# Altium integrated library Linear Technology Operational Amplifiers (LT1000).IntLib: 2280 symbols (part 40 of 79)
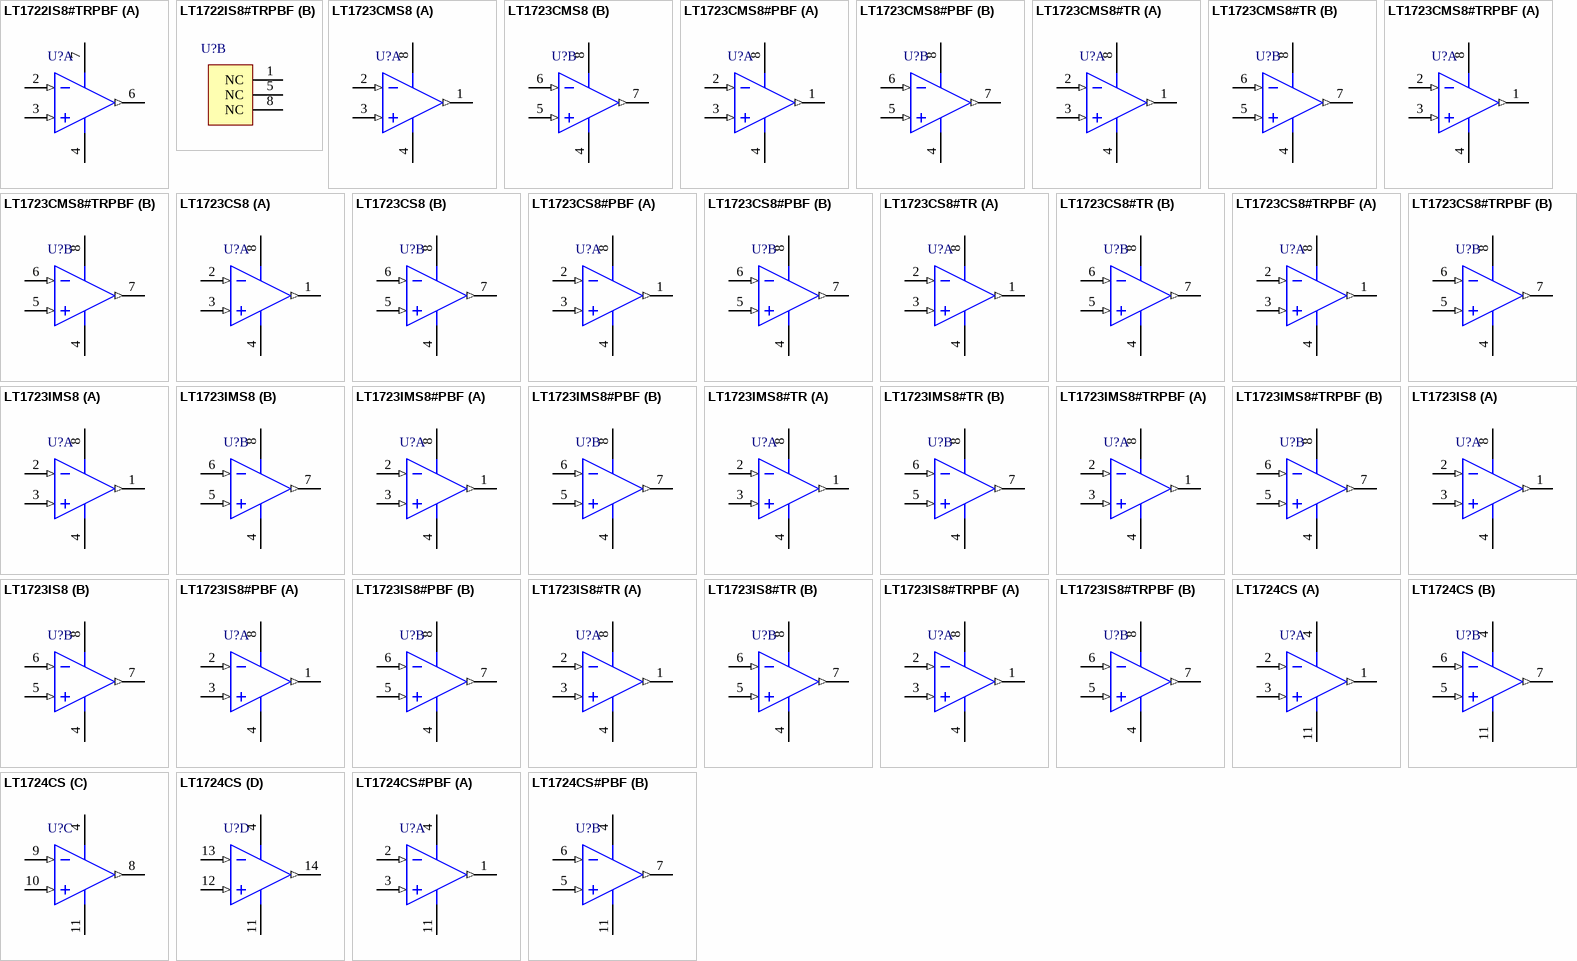
[diagram p144: symbols LT1722IS8#TRPBF to LT1724CS#PBF]

## LT1723IMS8#TR
designator U?
Dual Channel, Low Noise at Video Speed, Precision Operational Amplifier, 200 MHz Typical GBW, 70 V/us Typical SR, 4.6 to 12.6 V, 8-Pin SOP (MS8-8), Industrial, Reel; Linear Technology Part Number: LT1723; Manufacturer: Linear Technology; PartNumber: LT1723IMS8#TR; Channels (#): 2; GBW (MHz) Typical: 200; Is (mA) Typical: 3.7; SR (V/us) Typical: 70; Vos (mV) Guaranteed: 0.4; Vos (mV) Typical: 0.1; Vs Max (V): 12.6; Vs Min (V): 4.6; DatasheetVersion: Rev. B; PackageVersion: Rev G; PackageReference: LT-MS8-8; PackageDescription: 8-Lead Plastic Small Outline, Body 3.9 x 4.9 mm, Pitch 1.27 mm; Supplier 1: Digi-Key; Supplier Part Number 1: LT1723IMS8#TR-ND; Packing: Reel; Type: VFB; Mounting Technology: Surface Mount; ComponentLink1Description: Manufacturer URL; ComponentLink1URL: http://www.linear.com/; ComponentLink2Description: Datasheet; ComponentLink2URL: http://cds.linear.com/docs/en/datasheet/172234fb.pdf; ComponentLink3Description: Package Specification; ComponentLink3URL: http://cds.linear.com/docs/en/packaging/05081610_G_SO8.pdf
footprint LT-MS8-8_N (SOP, 8-Leads, Body 3x3mm, Pitch 0.65mm, IPC Medium Density)
footprint LT-MS8-8_L (SOP, 8-Leads, Body 3x3mm, Pitch 0.65mm, IPC High Density)
footprint LT-MS8-8_M (SOP, 8-Leads, Body 3x3mm, Pitch 0.65mm, IPC Low Density)
pins on every part: 4 V- (power), 8 V+ (power)
part A pins: 1 OUT A (out), 2 -IN A (in), 3 +IN A (in)
part B pins: 5 +IN B (in), 6 -IN B (in), 7 OUT B (out)

## LT1723IMS8#TRPBF
designator U?
Dual Channel, Low Noise at Video Speed, Precision Operational Amplifier, 200 MHz Typical GBW, 70 V/us Typical SR, 4.6 to 12.6 V, 8-Pin SOP (MS8-8), Industrial, Pb-Free, Reel; Linear Technology Part Number: LT1723; Manufacturer: Linear Technology; PartNumber: LT1723IMS8#TRPBF; Channels (#): 2; GBW (MHz) Typical: 200; Is (mA) Typical: 3.7; SR (V/us) Typical: 70; Vos (mV) Guaranteed: 0.4; Vos (mV) Typical: 0.1; Vs Max (V): 12.6; Vs Min (V): 4.6; DatasheetVersion: Rev. B; PackageVersion: Rev G; PackageReference: LT-MS8-8; PackageDescription: 8-Lead Plastic Small Outline, Body 3.9 x 4.9 mm, Pitch 1.27 mm; Supplier 1: Digi-Key; Supplier Part Number 1: LT1723IMS8#TRPBF-ND; Packing: Reel; RoHS: Pb-Free; Type: VFB; Mounting Technology: Surface Mount; ComponentLink1Description: Manufacturer URL; ComponentLink1URL: http://www.linear.com/; ComponentLink2Description: Datasheet; ComponentLink2URL: http://cds.linear.com/docs/en/datasheet/172234fb.pdf; ComponentLink3Description: Package Specification; ComponentLink3URL: http://cds.linear.com/docs/en/packaging/05081610_G_SO8.pdf
footprint LT-MS8-8_N (SOP, 8-Leads, Body 3x3mm, Pitch 0.65mm, IPC Medium Density)
footprint LT-MS8-8_L (SOP, 8-Leads, Body 3x3mm, Pitch 0.65mm, IPC High Density)
footprint LT-MS8-8_M (SOP, 8-Leads, Body 3x3mm, Pitch 0.65mm, IPC Low Density)
pins on every part: 4 V- (power), 8 V+ (power)
part A pins: 1 OUT A (out), 2 -IN A (in), 3 +IN A (in)
part B pins: 5 +IN B (in), 6 -IN B (in), 7 OUT B (out)

## LT1723IS8
designator U?
Dual Channel, Low Noise at Video Speed, Precision Operational Amplifier, 200 MHz Typical GBW, 70 V/us Typical SR, 4.6 to 12.6 V, 8-Pin SOIC (S8-8), Industrial; Linear Technology Part Number: LT1723; Manufacturer: Linear Technology; PartNumber: LT1723IS8; Channels (#): 2; GBW (MHz) Typical: 200; Is (mA) Typical: 3.7; SR (V/us) Typical: 70; Vos (mV) Guaranteed: 0.4; Vos (mV) Typical: 0.1; Vs Max (V): 12.6; Vs Min (V): 4.6; DatasheetVersion: Rev. B; PackageVersion: Rev G; PackageReference: LT-S8-8; PackageDescription: 8-Pin Plastic Small Outline, Body 4.9 x 3.9 mm, Pitch 1.27 mm; Supplier 1: Digi-Key; Supplier Part Number 1: LT1723IS8-ND; Type: VFB; Mounting Technology: Surface Mount; ComponentLink1Description: Manufacturer URL; ComponentLink1URL: http://www.linear.com/; ComponentLink2Description: Datasheet; ComponentLink2URL: http://cds.linear.com/docs/en/datasheet/172234fb.pdf; ComponentLink3Description: Package Specification; ComponentLink3URL: http://cds.linear.com/docs/en/packaging/05081610_G_SO8.pdf
footprint LT-S8-8_N (SOIC, 8-Leads, Body 4.9x3.9mm, Pitch 1.27mm, IPC Medium Density)
footprint LT-S8-8_L (SOIC, 8-Leads, Body 4.9x3.9mm, Pitch 1.27mm, IPC High Density)
footprint LT-S8-8_M (SOIC, 8-Leads, Body 4.9x3.9mm, Pitch 1.27mm, IPC Low Density)
pins on every part: 4 V- (power), 8 V+ (power)
part A pins: 1 OUT A (out), 2 -IN A (in), 3 +IN A (in)
part B pins: 5 +IN B (in), 6 -IN B (in), 7 OUT B (out)

## LT1723IS8#PBF
designator U?
Dual Channel, Low Noise at Video Speed, Precision Operational Amplifier, 200 MHz Typical GBW, 70 V/us Typical SR, 4.6 to 12.6 V, 8-Pin SOIC (S8-8), Industrial, Pb-Free; Linear Technology Part Number: LT1723; Manufacturer: Linear Technology; PartNumber: LT1723IS8#PBF; Channels (#): 2; GBW (MHz) Typical: 200; Is (mA) Typical: 3.7; SR (V/us) Typical: 70; Vos (mV) Guaranteed: 0.4; Vos (mV) Typical: 0.1; Vs Max (V): 12.6; Vs Min (V): 4.6; DatasheetVersion: Rev. B; PackageVersion: Rev G; PackageReference: LT-S8-8; PackageDescription: 8-Pin Plastic Small Outline, Body 4.9 x 3.9 mm, Pitch 1.27 mm; Supplier 1: Digi-Key; Supplier Part Number 1: LT1723IS8#PBF-ND; Supplier 2: Newark; Supplier Part Number 2: 57M5887; RoHS: Pb-Free; Type: VFB; Mounting Technology: Surface Mount; ComponentLink1Description: Manufacturer URL; ComponentLink1URL: http://www.linear.com/; ComponentLink2Description: Datasheet; ComponentLink2URL: http://cds.linear.com/docs/en/datasheet/172234fb.pdf; ComponentLink3Description: Package Specification; ComponentLink3URL: http://cds.linear.com/docs/en/packaging/05081610_G_SO8.pdf
footprint LT-S8-8_N (SOIC, 8-Leads, Body 4.9x3.9mm, Pitch 1.27mm, IPC Medium Density)
footprint LT-S8-8_L (SOIC, 8-Leads, Body 4.9x3.9mm, Pitch 1.27mm, IPC High Density)
footprint LT-S8-8_M (SOIC, 8-Leads, Body 4.9x3.9mm, Pitch 1.27mm, IPC Low Density)
pins on every part: 4 V- (power), 8 V+ (power)
part A pins: 1 OUT A (out), 2 -IN A (in), 3 +IN A (in)
part B pins: 5 +IN B (in), 6 -IN B (in), 7 OUT B (out)

## LT1723IS8#TR
designator U?
Dual Channel, Low Noise at Video Speed, Precision Operational Amplifier, 200 MHz Typical GBW, 70 V/us Typical SR, 4.6 to 12.6 V, 8-Pin SOIC (S8-8), Industrial, Reel; Linear Technology Part Number: LT1723; Manufacturer: Linear Technology; PartNumber: LT1723IS8#TR; Channels (#): 2; GBW (MHz) Typical: 200; Is (mA) Typical: 3.7; SR (V/us) Typical: 70; Vos (mV) Guaranteed: 0.4; Vos (mV) Typical: 0.1; Vs Max (V): 12.6; Vs Min (V): 4.6; DatasheetVersion: Rev. B; PackageVersion: Rev G; PackageReference: LT-S8-8; PackageDescription: 8-Pin Plastic Small Outline, Body 4.9 x 3.9 mm, Pitch 1.27 mm; Supplier 1: Digi-Key; Supplier Part Number 1: LT1723IS8TR-ND; Packing: Reel; Type: VFB; Mounting Technology: Surface Mount; ComponentLink1Description: Manufacturer URL; ComponentLink1URL: http://www.linear.com/; ComponentLink2Description: Datasheet; ComponentLink2URL: http://cds.linear.com/docs/en/datasheet/172234fb.pdf; ComponentLink3Description: Package Specification; ComponentLink3URL: http://cds.linear.com/docs/en/packaging/05081610_G_SO8.pdf
footprint LT-S8-8_N (SOIC, 8-Leads, Body 4.9x3.9mm, Pitch 1.27mm, IPC Medium Density)
footprint LT-S8-8_L (SOIC, 8-Leads, Body 4.9x3.9mm, Pitch 1.27mm, IPC High Density)
footprint LT-S8-8_M (SOIC, 8-Leads, Body 4.9x3.9mm, Pitch 1.27mm, IPC Low Density)
pins on every part: 4 V- (power), 8 V+ (power)
part A pins: 1 OUT A (out), 2 -IN A (in), 3 +IN A (in)
part B pins: 5 +IN B (in), 6 -IN B (in), 7 OUT B (out)

## LT1723IS8#TRPBF
designator U?
Dual Channel, Low Noise at Video Speed, Precision Operational Amplifier, 200 MHz Typical GBW, 70 V/us Typical SR, 4.6 to 12.6 V, 8-Pin SOIC (S8-8), Industrial, Pb-Free, Reel; Linear Technology Part Number: LT1723; Manufacturer: Linear Technology; PartNumber: LT1723IS8#TRPBF; Channels (#): 2; GBW (MHz) Typical: 200; Is (mA) Typical: 3.7; SR (V/us) Typical: 70; Vos (mV) Guaranteed: 0.4; Vos (mV) Typical: 0.1; Vs Max (V): 12.6; Vs Min (V): 4.6; DatasheetVersion: Rev. B; PackageVersion: Rev G; PackageReference: LT-S8-8; PackageDescription: 8-Pin Plastic Small Outline, Body 4.9 x 3.9 mm, Pitch 1.27 mm; Supplier 1: Digi-Key; Supplier Part Number 1: LT1723IS8#TRPBF-ND; Packing: Reel; RoHS: Pb-Free; Type: VFB; Mounting Technology: Surface Mount; ComponentLink1Description: Manufacturer URL; ComponentLink1URL: http://www.linear.com/; ComponentLink2Description: Datasheet; ComponentLink2URL: http://cds.linear.com/docs/en/datasheet/172234fb.pdf; ComponentLink3Description: Package Specification; ComponentLink3URL: http://cds.linear.com/docs/en/packaging/05081610_G_SO8.pdf
footprint LT-S8-8_N (SOIC, 8-Leads, Body 4.9x3.9mm, Pitch 1.27mm, IPC Medium Density)
footprint LT-S8-8_L (SOIC, 8-Leads, Body 4.9x3.9mm, Pitch 1.27mm, IPC High Density)
footprint LT-S8-8_M (SOIC, 8-Leads, Body 4.9x3.9mm, Pitch 1.27mm, IPC Low Density)
pins on every part: 4 V- (power), 8 V+ (power)
part A pins: 1 OUT A (out), 2 -IN A (in), 3 +IN A (in)
part B pins: 5 +IN B (in), 6 -IN B (in), 7 OUT B (out)

## LT1724CS
designator U?
Quad Channel, Low Noise at Video Speed, Precision Operational Amplifier, 200 MHz Typical GBW, 70 V/us Typical SR, 4.6 to 12.6 V, 14-Pin SOIC (S-14), Commercial; Linear Technology Part Number: LT1724; Manufacturer: Linear Technology; PartNumber: LT1724CS; Channels (#): 4; GBW (MHz) Typical: 200; Is (mA) Typical: 3.7; SR (V/us) Typical: 70; Vos (mV) Guaranteed: 0.4; Vos (mV) Typical: 0.1; Vs Max (V): 12.6; Vs Min (V): 4.6; DatasheetVersion: Rev. B; PackageVersion: Rev G; PackageReference: LT-S-14; PackageDescription: 14-Lead Plastic Small Outline, Body 8.65 x 3.90 mm, Pitch 1.27 mm; Supplier 1: Digi-Key; Supplier Part Number 1: LT1724CS-ND; Type: VFB; Mounting Technology: Surface Mount; ComponentLink1Description: Manufacturer URL; ComponentLink1URL: http://www.linear.com/; ComponentLink2Description: Datasheet; ComponentLink2URL: http://cds.linear.com/docs/en/datasheet/172234fb.pdf; ComponentLink3Description: Package Specification; ComponentLink3URL: http://cds.linear.com/docs/en/packaging/05081610_G_S14.pdf
footprint LT-S-14_N (SOIC, 14-Leads, Body 8.65x3.90mm, Pitch 1.27mm, IPC Medium Density)
footprint LT-S-14_L (SOIC, 14-Leads, Body 8.65x3.90mm, Pitch 1.27mm, IPC High Density)
footprint LT-S-14_M (SOIC, 14-Leads, Body 8.65x3.90mm, Pitch 1.27mm, IPC Low Density)
pins on every part: 4 V+ (power), 11 V- (power)
part A pins: 1 OUT A (out), 2 -IN A (in), 3 +IN A (in)
part B pins: 5 +IN B (in), 6 -IN B (in), 7 OUT B (out)
part C pins: 8 OUT C (out), 9 -IN C (in), 10 +IN C (in)
part D pins: 12 +IN D (in), 13 -IN D (in), 14 OUT D (out)

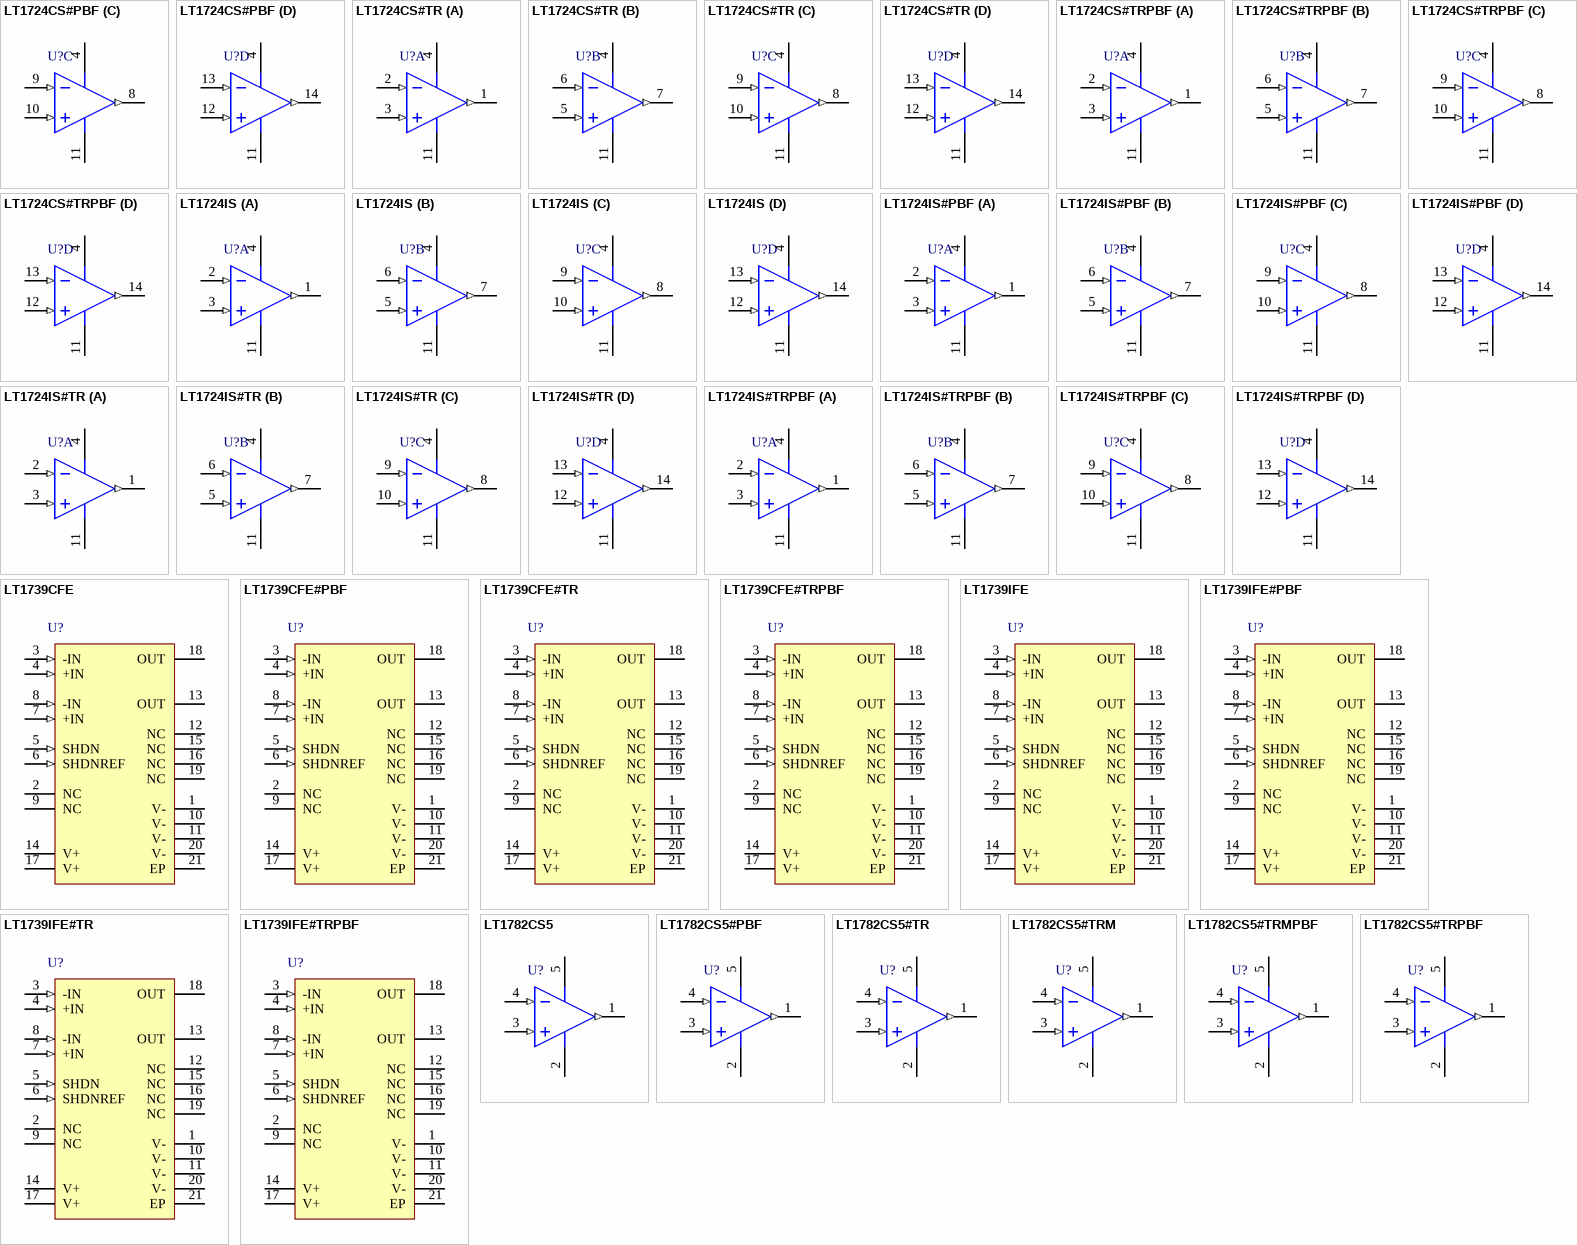
[diagram p68: symbols LT1724CS#PBF to LT1782CS5#TRPBF]

## LT1724CS#PBF
designator U?
Quad Channel, Low Noise at Video Speed, Precision Operational Amplifier, 200 MHz Typical GBW, 70 V/us Typical SR, 4.6 to 12.6 V, 14-Pin SOIC (S-14), Commercial, Pb-Free; Linear Technology Part Number: LT1724; Manufacturer: Linear Technology; PartNumber: LT1724CS#PBF; Channels (#): 4; GBW (MHz) Typical: 200; Is (mA) Typical: 3.7; SR (V/us) Typical: 70; Vos (mV) Guaranteed: 0.4; Vos (mV) Typical: 0.1; Vs Max (V): 12.6; Vs Min (V): 4.6; DatasheetVersion: Rev. B; PackageVersion: Rev G; PackageReference: LT-S-14; PackageDescription: 14-Lead Plastic Small Outline, Body 8.65 x 3.90 mm, Pitch 1.27 mm; Supplier 1: Digi-Key; Supplier Part Number 1: LT1724CS#PBF-ND; Supplier 2: Newark; Supplier Part Number 2: 57M5891; RoHS: Pb-Free; Type: VFB; Mounting Technology: Surface Mount; ComponentLink1Description: Manufacturer URL; ComponentLink1URL: http://www.linear.com/; ComponentLink2Description: Datasheet; ComponentLink2URL: http://cds.linear.com/docs/en/datasheet/172234fb.pdf; ComponentLink3Description: Package Specification; ComponentLink3URL: http://cds.linear.com/docs/en/packaging/05081610_G_S14.pdf
footprint LT-S-14_N (SOIC, 14-Leads, Body 8.65x3.90mm, Pitch 1.27mm, IPC Medium Density)
footprint LT-S-14_L (SOIC, 14-Leads, Body 8.65x3.90mm, Pitch 1.27mm, IPC High Density)
footprint LT-S-14_M (SOIC, 14-Leads, Body 8.65x3.90mm, Pitch 1.27mm, IPC Low Density)
pins on every part: 4 V+ (power), 11 V- (power)
part A pins: 1 OUT A (out), 2 -IN A (in), 3 +IN A (in)
part B pins: 5 +IN B (in), 6 -IN B (in), 7 OUT B (out)
part C pins: 8 OUT C (out), 9 -IN C (in), 10 +IN C (in)
part D pins: 12 +IN D (in), 13 -IN D (in), 14 OUT D (out)

## LT1724CS#TR
designator U?
Quad Channel, Low Noise at Video Speed, Precision Operational Amplifier, 200 MHz Typical GBW, 70 V/us Typical SR, 4.6 to 12.6 V, 14-Pin SOIC (S-14), Commercial, Reel; Linear Technology Part Number: LT1724; Manufacturer: Linear Technology; PartNumber: LT1724CS#TR; Channels (#): 4; GBW (MHz) Typical: 200; Is (mA) Typical: 3.7; SR (V/us) Typical: 70; Vos (mV) Guaranteed: 0.4; Vos (mV) Typical: 0.1; Vs Max (V): 12.6; Vs Min (V): 4.6; DatasheetVersion: Rev. B; PackageVersion: Rev G; PackageReference: LT-S-14; PackageDescription: 14-Lead Plastic Small Outline, Body 8.65 x 3.90 mm, Pitch 1.27 mm; Supplier 1: Digi-Key; Supplier Part Number 1: LT1724CSTR-ND; Packing: Reel; Type: VFB; Mounting Technology: Surface Mount; ComponentLink1Description: Manufacturer URL; ComponentLink1URL: http://www.linear.com/; ComponentLink2Description: Datasheet; ComponentLink2URL: http://cds.linear.com/docs/en/datasheet/172234fb.pdf; ComponentLink3Description: Package Specification; ComponentLink3URL: http://cds.linear.com/docs/en/packaging/05081610_G_S14.pdf
footprint LT-S-14_N (SOIC, 14-Leads, Body 8.65x3.90mm, Pitch 1.27mm, IPC Medium Density)
footprint LT-S-14_L (SOIC, 14-Leads, Body 8.65x3.90mm, Pitch 1.27mm, IPC High Density)
footprint LT-S-14_M (SOIC, 14-Leads, Body 8.65x3.90mm, Pitch 1.27mm, IPC Low Density)
pins on every part: 4 V+ (power), 11 V- (power)
part A pins: 1 OUT A (out), 2 -IN A (in), 3 +IN A (in)
part B pins: 5 +IN B (in), 6 -IN B (in), 7 OUT B (out)
part C pins: 8 OUT C (out), 9 -IN C (in), 10 +IN C (in)
part D pins: 12 +IN D (in), 13 -IN D (in), 14 OUT D (out)

## LT1724CS#TRPBF
designator U?
Quad Channel, Low Noise at Video Speed, Precision Operational Amplifier, 200 MHz Typical GBW, 70 V/us Typical SR, 4.6 to 12.6 V, 14-Pin SOIC (S-14), Commercial, Pb-Free, Reel; Linear Technology Part Number: LT1724; Manufacturer: Linear Technology; PartNumber: LT1724CS#TRPBF; Channels (#): 4; GBW (MHz) Typical: 200; Is (mA) Typical: 3.7; SR (V/us) Typical: 70; Vos (mV) Guaranteed: 0.4; Vos (mV) Typical: 0.1; Vs Max (V): 12.6; Vs Min (V): 4.6; DatasheetVersion: Rev. B; PackageVersion: Rev G; PackageReference: LT-S-14; PackageDescription: 14-Lead Plastic Small Outline, Body 8.65 x 3.90 mm, Pitch 1.27 mm; Supplier 1: Digi-Key; Supplier Part Number 1: LT1724CS#TRPBF-ND; Packing: Reel; RoHS: Pb-Free; Type: VFB; Mounting Technology: Surface Mount; ComponentLink1Description: Manufacturer URL; ComponentLink1URL: http://www.linear.com/; ComponentLink2Description: Datasheet; ComponentLink2URL: http://cds.linear.com/docs/en/datasheet/172234fb.pdf; ComponentLink3Description: Package Specification; ComponentLink3URL: http://cds.linear.com/docs/en/packaging/05081610_G_S14.pdf
footprint LT-S-14_N (SOIC, 14-Leads, Body 8.65x3.90mm, Pitch 1.27mm, IPC Medium Density)
footprint LT-S-14_L (SOIC, 14-Leads, Body 8.65x3.90mm, Pitch 1.27mm, IPC High Density)
footprint LT-S-14_M (SOIC, 14-Leads, Body 8.65x3.90mm, Pitch 1.27mm, IPC Low Density)
pins on every part: 4 V+ (power), 11 V- (power)
part A pins: 1 OUT A (out), 2 -IN A (in), 3 +IN A (in)
part B pins: 5 +IN B (in), 6 -IN B (in), 7 OUT B (out)
part C pins: 8 OUT C (out), 9 -IN C (in), 10 +IN C (in)
part D pins: 12 +IN D (in), 13 -IN D (in), 14 OUT D (out)

## LT1724IS
designator U?
Quad Channel, Low Noise at Video Speed, Precision Operational Amplifier, 200 MHz Typical GBW, 70 V/us Typical SR, 4.6 to 12.6 V, 14-Pin SOIC (S-14), Industrial; Linear Technology Part Number: LT1724; Manufacturer: Linear Technology; PartNumber: LT1724IS; Channels (#): 4; GBW (MHz) Typical: 200; Is (mA) Typical: 3.7; SR (V/us) Typical: 70; Vos (mV) Guaranteed: 0.4; Vos (mV) Typical: 0.1; Vs Max (V): 12.6; Vs Min (V): 4.6; DatasheetVersion: Rev. B; PackageVersion: Rev G; PackageReference: LT-S-14; PackageDescription: 14-Lead Plastic Small Outline, Body 8.65 x 3.90 mm, Pitch 1.27 mm; Supplier 1: Digi-Key; Supplier Part Number 1: LT1724IS-ND; Type: VFB; Mounting Technology: Surface Mount; ComponentLink1Description: Manufacturer URL; ComponentLink1URL: http://www.linear.com/; ComponentLink2Description: Datasheet; ComponentLink2URL: http://cds.linear.com/docs/en/datasheet/172234fb.pdf; ComponentLink3Description: Package Specification; ComponentLink3URL: http://cds.linear.com/docs/en/packaging/05081610_G_S14.pdf
footprint LT-S-14_N (SOIC, 14-Leads, Body 8.65x3.90mm, Pitch 1.27mm, IPC Medium Density)
footprint LT-S-14_L (SOIC, 14-Leads, Body 8.65x3.90mm, Pitch 1.27mm, IPC High Density)
footprint LT-S-14_M (SOIC, 14-Leads, Body 8.65x3.90mm, Pitch 1.27mm, IPC Low Density)
pins on every part: 4 V+ (power), 11 V- (power)
part A pins: 1 OUT A (out), 2 -IN A (in), 3 +IN A (in)
part B pins: 5 +IN B (in), 6 -IN B (in), 7 OUT B (out)
part C pins: 8 OUT C (out), 9 -IN C (in), 10 +IN C (in)
part D pins: 12 +IN D (in), 13 -IN D (in), 14 OUT D (out)

## LT1724IS#PBF
designator U?
Quad Channel, Low Noise at Video Speed, Precision Operational Amplifier, 200 MHz Typical GBW, 70 V/us Typical SR, 4.6 to 12.6 V, 14-Pin SOIC (S-14), Industrial, Pb-Free; Linear Technology Part Number: LT1724; Manufacturer: Linear Technology; PartNumber: LT1724IS#PBF; Channels (#): 4; GBW (MHz) Typical: 200; Is (mA) Typical: 3.7; SR (V/us) Typical: 70; Vos (mV) Guaranteed: 0.4; Vos (mV) Typical: 0.1; Vs Max (V): 12.6; Vs Min (V): 4.6; DatasheetVersion: Rev. B; PackageVersion: Rev G; PackageReference: LT-S-14; PackageDescription: 14-Lead Plastic Small Outline, Body 8.65 x 3.90 mm, Pitch 1.27 mm; Supplier 1: Digi-Key; Supplier Part Number 1: LT1724IS#PBF-ND; RoHS: Pb-Free; Type: VFB; Mounting Technology: Surface Mount; ComponentLink1Description: Manufacturer URL; ComponentLink1URL: http://www.linear.com/; ComponentLink2Description: Datasheet; ComponentLink2URL: http://cds.linear.com/docs/en/datasheet/172234fb.pdf; ComponentLink3Description: Package Specification; ComponentLink3URL: http://cds.linear.com/docs/en/packaging/05081610_G_S14.pdf
footprint LT-S-14_N (SOIC, 14-Leads, Body 8.65x3.90mm, Pitch 1.27mm, IPC Medium Density)
footprint LT-S-14_L (SOIC, 14-Leads, Body 8.65x3.90mm, Pitch 1.27mm, IPC High Density)
footprint LT-S-14_M (SOIC, 14-Leads, Body 8.65x3.90mm, Pitch 1.27mm, IPC Low Density)
pins on every part: 4 V+ (power), 11 V- (power)
part A pins: 1 OUT A (out), 2 -IN A (in), 3 +IN A (in)
part B pins: 5 +IN B (in), 6 -IN B (in), 7 OUT B (out)
part C pins: 8 OUT C (out), 9 -IN C (in), 10 +IN C (in)
part D pins: 12 +IN D (in), 13 -IN D (in), 14 OUT D (out)

## LT1724IS#TR
designator U?
Quad Channel, Low Noise at Video Speed, Precision Operational Amplifier, 200 MHz Typical GBW, 70 V/us Typical SR, 4.6 to 12.6 V, 14-Pin SOIC (S-14), Industrial, Reel; Linear Technology Part Number: LT1724; Manufacturer: Linear Technology; PartNumber: LT1724IS#TR; Channels (#): 4; GBW (MHz) Typical: 200; Is (mA) Typical: 3.7; SR (V/us) Typical: 70; Vos (mV) Guaranteed: 0.4; Vos (mV) Typical: 0.1; Vs Max (V): 12.6; Vs Min (V): 4.6; DatasheetVersion: Rev. B; PackageVersion: Rev G; PackageReference: LT-S-14; PackageDescription: 14-Lead Plastic Small Outline, Body 8.65 x 3.90 mm, Pitch 1.27 mm; Supplier 1: Digi-Key; Supplier Part Number 1: LT1724ISTR-ND; Packing: Reel; Type: VFB; Mounting Technology: Surface Mount; ComponentLink1Description: Manufacturer URL; ComponentLink1URL: http://www.linear.com/; ComponentLink2Description: Datasheet; ComponentLink2URL: http://cds.linear.com/docs/en/datasheet/172234fb.pdf; ComponentLink3Description: Package Specification; ComponentLink3URL: http://cds.linear.com/docs/en/packaging/05081610_G_S14.pdf
footprint LT-S-14_N (SOIC, 14-Leads, Body 8.65x3.90mm, Pitch 1.27mm, IPC Medium Density)
footprint LT-S-14_L (SOIC, 14-Leads, Body 8.65x3.90mm, Pitch 1.27mm, IPC High Density)
footprint LT-S-14_M (SOIC, 14-Leads, Body 8.65x3.90mm, Pitch 1.27mm, IPC Low Density)
pins on every part: 4 V+ (power), 11 V- (power)
part A pins: 1 OUT A (out), 2 -IN A (in), 3 +IN A (in)
part B pins: 5 +IN B (in), 6 -IN B (in), 7 OUT B (out)
part C pins: 8 OUT C (out), 9 -IN C (in), 10 +IN C (in)
part D pins: 12 +IN D (in), 13 -IN D (in), 14 OUT D (out)

## LT1724IS#TRPBF
designator U?
Quad Channel, Low Noise at Video Speed, Precision Operational Amplifier, 200 MHz Typical GBW, 70 V/us Typical SR, 4.6 to 12.6 V, 14-Pin SOIC (S-14), Industrial, Pb-Free, Reel; Linear Technology Part Number: LT1724; Manufacturer: Linear Technology; PartNumber: LT1724IS#TRPBF; Channels (#): 4; GBW (MHz) Typical: 200; Is (mA) Typical: 3.7; SR (V/us) Typical: 70; Vos (mV) Guaranteed: 0.4; Vos (mV) Typical: 0.1; Vs Max (V): 12.6; Vs Min (V): 4.6; DatasheetVersion: Rev. B; PackageVersion: Rev G; PackageReference: LT-S-14; PackageDescription: 14-Lead Plastic Small Outline, Body 8.65 x 3.90 mm, Pitch 1.27 mm; Supplier 1: Digi-Key; Supplier Part Number 1: LT1724IS#TRPBF-ND; Packing: Reel; RoHS: Pb-Free; Type: VFB; Mounting Technology: Surface Mount; ComponentLink1Description: Manufacturer URL; ComponentLink1URL: http://www.linear.com/; ComponentLink2Description: Datasheet; ComponentLink2URL: http://cds.linear.com/docs/en/datasheet/172234fb.pdf; ComponentLink3Description: Package Specification; ComponentLink3URL: http://cds.linear.com/docs/en/packaging/05081610_G_S14.pdf
footprint LT-S-14_N (SOIC, 14-Leads, Body 8.65x3.90mm, Pitch 1.27mm, IPC Medium Density)
footprint LT-S-14_L (SOIC, 14-Leads, Body 8.65x3.90mm, Pitch 1.27mm, IPC High Density)
footprint LT-S-14_M (SOIC, 14-Leads, Body 8.65x3.90mm, Pitch 1.27mm, IPC Low Density)
pins on every part: 4 V+ (power), 11 V- (power)
part A pins: 1 OUT A (out), 2 -IN A (in), 3 +IN A (in)
part B pins: 5 +IN B (in), 6 -IN B (in), 7 OUT B (out)
part C pins: 8 OUT C (out), 9 -IN C (in), 10 +IN C (in)
part D pins: 12 +IN D (in), 13 -IN D (in), 14 OUT D (out)

## LT1739CFE
designator U?
Dual Channel, 500 mA, 200MHz xDSL Line Driver Amplifier, 200 MHz Typical GBW, 600 V/us Typical SR, 8 to 27 V, 20-Pin SOP (FE-20), Commercial; Linear Technology Part Number: LT1739; Manufacturer: Linear Technology; PartNumber: LT1739CFE; Channels (#): 2; GBW (MHz) Typical: 200; Is (mA) Typical: 10; SR (V/us) Typical: 600; Vos (mV) Guaranteed: 5; Vos (mV) Typical: 1; Vs Max (V): 27; Vs Min (V): 8; DatasheetVersion: Rev. A; PackageVersion: Rev I; PackageReference: LT-FE-20-EPV-CA; PackageDescription: 20-Lead Plastic TSSOP, Body 6.50 x 4.40 mm, Pitch 0.65 mm; Supplier 1: Digi-Key; Supplier Part Number 1: LT1739CFE-ND; Type: VFB; Mounting Technology: Surface Mount; ComponentLink1Description: Manufacturer URL; ComponentLink1URL: http://www.linear.com/; ComponentLink2Description: Datasheet; ComponentLink2URL: http://cds.linear.com/docs/en/datasheet/1739fas.pdf; ComponentLink3Description: Package Specification; ComponentLink3URL: http://cds.linear.com/docs/en/packaging/05081663_I_FE20%28CA%29.pdf
footprint LT-FE-20-EPV-CA_N (SOP, 20-Leads, Body 6.5x4.4mm, Pitch 0.65mm, Thermal Pad 4.95 x 2.74mm, IPC Medium Density)
footprint LT-FE-20-EPV-CA_L (SOP, 20-Leads, Body 6.5x4.4mm, Pitch 0.65mm, Thermal Pad 4.95 x 2.74mm, IPC High Density)
footprint LT-FE-20-EPV-CA_M (SOP, 20-Leads, Body 6.5x4.4mm, Pitch 0.65mm, Thermal Pad 4.95 x2.74mm, IPC Low Density)
pins: 1 V- (power), 2 NC, 3 -IN (in), 4 +IN (in), 5 SHDN (in), 6 SHDNREF (in), 7 +IN (in), 8 -IN (in), 9 NC, 10 V- (power), 11 V- (power), 12 NC, 13 OUT (hiz), 14 V+ (power), 15 NC, 16 NC, 17 V+ (power), 18 OUT (hiz), 19 NC, 20 V- (power), 21 EP (power)

## LT1739CFE#PBF
designator U?
Dual Channel, 500 mA, 200MHz xDSL Line Driver Amplifier, 200 MHz Typical GBW, 600 V/us Typical SR, 8 to 27 V, 20-Pin SOP (FE-20), Commercial, Pb-Free; Linear Technology Part Number: LT1739; Manufacturer: Linear Technology; PartNumber: LT1739CFE#PBF; Channels (#): 2; GBW (MHz) Typical: 200; Is (mA) Typical: 10; SR (V/us) Typical: 600; Vos (mV) Guaranteed: 5; Vos (mV) Typical: 1; Vs Max (V): 27; Vs Min (V): 8; DatasheetVersion: Rev. A; PackageVersion: Rev I; PackageReference: LT-FE-20-EPV-CA; PackageDescription: 20-Lead Plastic TSSOP, Body 6.50 x 4.40 mm, Pitch 0.65 mm; Supplier 1: Digi-Key; Supplier Part Number 1: LT1739CFE#PBF-ND; Supplier 2: Newark; Supplier Part Number 2: 57M5939; RoHS: Pb-Free; Type: VFB; Mounting Technology: Surface Mount; ComponentLink1Description: Manufacturer URL; ComponentLink1URL: http://www.linear.com/; ComponentLink2Description: Datasheet; ComponentLink2URL: http://cds.linear.com/docs/en/datasheet/1739fas.pdf; ComponentLink3Description: Package Specification; ComponentLink3URL: http://cds.linear.com/docs/en/packaging/05081663_I_FE20%28CA%29.pdf
footprint LT-FE-20-EPV-CA_N (SOP, 20-Leads, Body 6.5x4.4mm, Pitch 0.65mm, Thermal Pad 4.95 x 2.74mm, IPC Medium Density)
footprint LT-FE-20-EPV-CA_L (SOP, 20-Leads, Body 6.5x4.4mm, Pitch 0.65mm, Thermal Pad 4.95 x 2.74mm, IPC High Density)
footprint LT-FE-20-EPV-CA_M (SOP, 20-Leads, Body 6.5x4.4mm, Pitch 0.65mm, Thermal Pad 4.95 x2.74mm, IPC Low Density)
pins: 1 V- (power), 2 NC, 3 -IN (in), 4 +IN (in), 5 SHDN (in), 6 SHDNREF (in), 7 +IN (in), 8 -IN (in), 9 NC, 10 V- (power), 11 V- (power), 12 NC, 13 OUT (hiz), 14 V+ (power), 15 NC, 16 NC, 17 V+ (power), 18 OUT (hiz), 19 NC, 20 V- (power), 21 EP (power)

## LT1739CFE#TR
designator U?
Dual Channel, 500 mA, 200MHz xDSL Line Driver Amplifier, 200 MHz Typical GBW, 600 V/us Typical SR, 8 to 27 V, 20-Pin SOP (FE-20), Commercial, Reel; Linear Technology Part Number: LT1739; Manufacturer: Linear Technology; PartNumber: LT1739CFE#TR; Channels (#): 2; GBW (MHz) Typical: 200; Is (mA) Typical: 10; SR (V/us) Typical: 600; Vos (mV) Guaranteed: 5; Vos (mV) Typical: 1; Vs Max (V): 27; Vs Min (V): 8; DatasheetVersion: Rev. A; PackageVersion: Rev I; PackageReference: LT-FE-20-EPV-CA; PackageDescription: 20-Lead Plastic TSSOP, Body 6.50 x 4.40 mm, Pitch 0.65 mm; Supplier 1: Digi-Key; Supplier Part Number 1: LT1739CFETR-ND; Packing: Reel; Type: VFB; Mounting Technology: Surface Mount; ComponentLink1Description: Manufacturer URL; ComponentLink1URL: http://www.linear.com/; ComponentLink2Description: Datasheet; ComponentLink2URL: http://cds.linear.com/docs/en/datasheet/1739fas.pdf; ComponentLink3Description: Package Specification; ComponentLink3URL: http://cds.linear.com/docs/en/packaging/05081663_I_FE20%28CA%29.pdf
footprint LT-FE-20-EPV-CA_N (SOP, 20-Leads, Body 6.5x4.4mm, Pitch 0.65mm, Thermal Pad 4.95 x 2.74mm, IPC Medium Density)
footprint LT-FE-20-EPV-CA_L (SOP, 20-Leads, Body 6.5x4.4mm, Pitch 0.65mm, Thermal Pad 4.95 x 2.74mm, IPC High Density)
footprint LT-FE-20-EPV-CA_M (SOP, 20-Leads, Body 6.5x4.4mm, Pitch 0.65mm, Thermal Pad 4.95 x2.74mm, IPC Low Density)
pins: 1 V- (power), 2 NC, 3 -IN (in), 4 +IN (in), 5 SHDN (in), 6 SHDNREF (in), 7 +IN (in), 8 -IN (in), 9 NC, 10 V- (power), 11 V- (power), 12 NC, 13 OUT (hiz), 14 V+ (power), 15 NC, 16 NC, 17 V+ (power), 18 OUT (hiz), 19 NC, 20 V- (power), 21 EP (power)

## LT1739CFE#TRPBF
designator U?
Dual Channel, 500 mA, 200MHz xDSL Line Driver Amplifier, 200 MHz Typical GBW, 600 V/us Typical SR, 8 to 27 V, 20-Pin SOP (FE-20), Commercial, Pb-Free, Reel; Linear Technology Part Number: LT1739; Manufacturer: Linear Technology; PartNumber: LT1739CFE#TRPBF; Channels (#): 2; GBW (MHz) Typical: 200; Is (mA) Typical: 10; SR (V/us) Typical: 600; Vos (mV) Guaranteed: 5; Vos (mV) Typical: 1; Vs Max (V): 27; Vs Min (V): 8; DatasheetVersion: Rev. A; PackageVersion: Rev I; PackageReference: LT-FE-20-EPV-CA; PackageDescription: 20-Lead Plastic TSSOP, Body 6.50 x 4.40 mm, Pitch 0.65 mm; Supplier 1: Digi-Key; Supplier Part Number 1: LT1739CFE#TRPBF-ND; Supplier 2: Newark; Supplier Part Number 2: 57M5941; Packing: Reel; RoHS: Pb-Free; Type: VFB; Mounting Technology: Surface Mount; ComponentLink1Description: Manufacturer URL; ComponentLink1URL: http://www.linear.com/; ComponentLink2Description: Datasheet; ComponentLink2URL: http://cds.linear.com/docs/en/datasheet/1739fas.pdf; ComponentLink3Description: Package Specification; ComponentLink3URL: http://cds.linear.com/docs/en/packaging/05081663_I_FE20%28CA%29.pdf
footprint LT-FE-20-EPV-CA_N (SOP, 20-Leads, Body 6.5x4.4mm, Pitch 0.65mm, Thermal Pad 4.95 x 2.74mm, IPC Medium Density)
footprint LT-FE-20-EPV-CA_L (SOP, 20-Leads, Body 6.5x4.4mm, Pitch 0.65mm, Thermal Pad 4.95 x 2.74mm, IPC High Density)
footprint LT-FE-20-EPV-CA_M (SOP, 20-Leads, Body 6.5x4.4mm, Pitch 0.65mm, Thermal Pad 4.95 x2.74mm, IPC Low Density)
pins: 1 V- (power), 2 NC, 3 -IN (in), 4 +IN (in), 5 SHDN (in), 6 SHDNREF (in), 7 +IN (in), 8 -IN (in), 9 NC, 10 V- (power), 11 V- (power), 12 NC, 13 OUT (hiz), 14 V+ (power), 15 NC, 16 NC, 17 V+ (power), 18 OUT (hiz), 19 NC, 20 V- (power), 21 EP (power)

## LT1739IFE
designator U?
Dual Channel, 500 mA, 200MHz xDSL Line Driver Amplifier, 200 MHz Typical GBW, 600 V/us Typical SR, 8 to 27 V, 20-Pin SOP (FE-20), Industrial; Linear Technology Part Number: LT1739; Manufacturer: Linear Technology; PartNumber: LT1739IFE; Channels (#): 2; GBW (MHz) Typical: 200; Is (mA) Typical: 10; SR (V/us) Typical: 600; Vos (mV) Guaranteed: 5; Vos (mV) Typical: 1; Vs Max (V): 27; Vs Min (V): 8; DatasheetVersion: Rev. A; PackageVersion: Rev I; PackageReference: LT-FE-20-EPV-CA; PackageDescription: 20-Lead Plastic TSSOP, Body 6.50 x 4.40 mm, Pitch 0.65 mm; Supplier 1: Digi-Key; Supplier Part Number 1: LT1739IFE-ND; Type: VFB; Mounting Technology: Surface Mount; ComponentLink1Description: Manufacturer URL; ComponentLink1URL: http://www.linear.com/; ComponentLink2Description: Datasheet; ComponentLink2URL: http://cds.linear.com/docs/en/datasheet/1739fas.pdf; ComponentLink3Description: Package Specification; ComponentLink3URL: http://cds.linear.com/docs/en/packaging/05081663_I_FE20%28CA%29.pdf
footprint LT-FE-20-EPV-CA_N (SOP, 20-Leads, Body 6.5x4.4mm, Pitch 0.65mm, Thermal Pad 4.95 x 2.74mm, IPC Medium Density)
footprint LT-FE-20-EPV-CA_L (SOP, 20-Leads, Body 6.5x4.4mm, Pitch 0.65mm, Thermal Pad 4.95 x 2.74mm, IPC High Density)
footprint LT-FE-20-EPV-CA_M (SOP, 20-Leads, Body 6.5x4.4mm, Pitch 0.65mm, Thermal Pad 4.95 x2.74mm, IPC Low Density)
pins: 1 V- (power), 2 NC, 3 -IN (in), 4 +IN (in), 5 SHDN (in), 6 SHDNREF (in), 7 +IN (in), 8 -IN (in), 9 NC, 10 V- (power), 11 V- (power), 12 NC, 13 OUT (hiz), 14 V+ (power), 15 NC, 16 NC, 17 V+ (power), 18 OUT (hiz), 19 NC, 20 V- (power), 21 EP (power)

## LT1739IFE#PBF
designator U?
Dual Channel, 500 mA, 200MHz xDSL Line Driver Amplifier, 200 MHz Typical GBW, 600 V/us Typical SR, 8 to 27 V, 20-Pin SOP (FE-20), Industrial, Pb-Free; Linear Technology Part Number: LT1739; Manufacturer: Linear Technology; PartNumber: LT1739IFE#PBF; Channels (#): 2; GBW (MHz) Typical: 200; Is (mA) Typical: 10; SR (V/us) Typical: 600; Vos (mV) Guaranteed: 5; Vos (mV) Typical: 1; Vs Max (V): 27; Vs Min (V): 8; DatasheetVersion: Rev. A; PackageVersion: Rev I; PackageReference: LT-FE-20-EPV-CA; PackageDescription: 20-Lead Plastic TSSOP, Body 6.50 x 4.40 mm, Pitch 0.65 mm; Supplier 1: Digi-Key; Supplier Part Number 1: LT1739IFE#PBF-ND; RoHS: Pb-Free; Type: VFB; Mounting Technology: Surface Mount; ComponentLink1Description: Manufacturer URL; ComponentLink1URL: http://www.linear.com/; ComponentLink2Description: Datasheet; ComponentLink2URL: http://cds.linear.com/docs/en/datasheet/1739fas.pdf; ComponentLink3Description: Package Specification; ComponentLink3URL: http://cds.linear.com/docs/en/packaging/05081663_I_FE20%28CA%29.pdf
footprint LT-FE-20-EPV-CA_N (SOP, 20-Leads, Body 6.5x4.4mm, Pitch 0.65mm, Thermal Pad 4.95 x 2.74mm, IPC Medium Density)
footprint LT-FE-20-EPV-CA_L (SOP, 20-Leads, Body 6.5x4.4mm, Pitch 0.65mm, Thermal Pad 4.95 x 2.74mm, IPC High Density)
footprint LT-FE-20-EPV-CA_M (SOP, 20-Leads, Body 6.5x4.4mm, Pitch 0.65mm, Thermal Pad 4.95 x2.74mm, IPC Low Density)
pins: 1 V- (power), 2 NC, 3 -IN (in), 4 +IN (in), 5 SHDN (in), 6 SHDNREF (in), 7 +IN (in), 8 -IN (in), 9 NC, 10 V- (power), 11 V- (power), 12 NC, 13 OUT (hiz), 14 V+ (power), 15 NC, 16 NC, 17 V+ (power), 18 OUT (hiz), 19 NC, 20 V- (power), 21 EP (power)

## LT1739IFE#TR
designator U?
Dual Channel, 500 mA, 200MHz xDSL Line Driver Amplifier, 200 MHz Typical GBW, 600 V/us Typical SR, 8 to 27 V, 20-Pin SOP (FE-20), Industrial, Reel; Linear Technology Part Number: LT1739; Manufacturer: Linear Technology; PartNumber: LT1739IFE#TR; Channels (#): 2; GBW (MHz) Typical: 200; Is (mA) Typical: 10; SR (V/us) Typical: 600; Vos (mV) Guaranteed: 5; Vos (mV) Typical: 1; Vs Max (V): 27; Vs Min (V): 8; DatasheetVersion: Rev. A; PackageVersion: Rev I; PackageReference: LT-FE-20-EPV-CA; PackageDescription: 20-Lead Plastic TSSOP, Body 6.50 x 4.40 mm, Pitch 0.65 mm; Supplier 1: Digi-Key; Supplier Part Number 1: LT1739IFETR-ND; Packing: Reel; Type: VFB; Mounting Technology: Surface Mount; ComponentLink1Description: Manufacturer URL; ComponentLink1URL: http://www.linear.com/; ComponentLink2Description: Datasheet; ComponentLink2URL: http://cds.linear.com/docs/en/datasheet/1739fas.pdf; ComponentLink3Description: Package Specification; ComponentLink3URL: http://cds.linear.com/docs/en/packaging/05081663_I_FE20%28CA%29.pdf
footprint LT-FE-20-EPV-CA_N (SOP, 20-Leads, Body 6.5x4.4mm, Pitch 0.65mm, Thermal Pad 4.95 x 2.74mm, IPC Medium Density)
footprint LT-FE-20-EPV-CA_L (SOP, 20-Leads, Body 6.5x4.4mm, Pitch 0.65mm, Thermal Pad 4.95 x 2.74mm, IPC High Density)
footprint LT-FE-20-EPV-CA_M (SOP, 20-Leads, Body 6.5x4.4mm, Pitch 0.65mm, Thermal Pad 4.95 x2.74mm, IPC Low Density)
pins: 1 V- (power), 2 NC, 3 -IN (in), 4 +IN (in), 5 SHDN (in), 6 SHDNREF (in), 7 +IN (in), 8 -IN (in), 9 NC, 10 V- (power), 11 V- (power), 12 NC, 13 OUT (hiz), 14 V+ (power), 15 NC, 16 NC, 17 V+ (power), 18 OUT (hiz), 19 NC, 20 V- (power), 21 EP (power)

## LT1739IFE#TRPBF
designator U?
Dual Channel, 500 mA, 200MHz xDSL Line Driver Amplifier, 200 MHz Typical GBW, 600 V/us Typical SR, 8 to 27 V, 20-Pin SOP (FE-20), Industrial, Pb-Free, Reel; Linear Technology Part Number: LT1739; Manufacturer: Linear Technology; PartNumber: LT1739IFE#TRPBF; Channels (#): 2; GBW (MHz) Typical: 200; Is (mA) Typical: 10; SR (V/us) Typical: 600; Vos (mV) Guaranteed: 5; Vos (mV) Typical: 1; Vs Max (V): 27; Vs Min (V): 8; DatasheetVersion: Rev. A; PackageVersion: Rev I; PackageReference: LT-FE-20-EPV-CA; PackageDescription: 20-Lead Plastic TSSOP, Body 6.50 x 4.40 mm, Pitch 0.65 mm; Supplier 1: Digi-Key; Supplier Part Number 1: LT1739IFE#TRPBF-ND; Supplier 2: Newark; Supplier Part Number 2: 57M5947; Packing: Reel; RoHS: Pb-Free; Type: VFB; Mounting Technology: Surface Mount; ComponentLink1Description: Manufacturer URL; ComponentLink1URL: http://www.linear.com/; ComponentLink2Description: Datasheet; ComponentLink2URL: http://cds.linear.com/docs/en/datasheet/1739fas.pdf; ComponentLink3Description: Package Specification; ComponentLink3URL: http://cds.linear.com/docs/en/packaging/05081663_I_FE20%28CA%29.pdf
footprint LT-FE-20-EPV-CA_N (SOP, 20-Leads, Body 6.5x4.4mm, Pitch 0.65mm, Thermal Pad 4.95 x 2.74mm, IPC Medium Density)
footprint LT-FE-20-EPV-CA_L (SOP, 20-Leads, Body 6.5x4.4mm, Pitch 0.65mm, Thermal Pad 4.95 x 2.74mm, IPC High Density)
footprint LT-FE-20-EPV-CA_M (SOP, 20-Leads, Body 6.5x4.4mm, Pitch 0.65mm, Thermal Pad 4.95 x2.74mm, IPC Low Density)
pins: 1 V- (power), 2 NC, 3 -IN (in), 4 +IN (in), 5 SHDN (in), 6 SHDNREF (in), 7 +IN (in), 8 -IN (in), 9 NC, 10 V- (power), 11 V- (power), 12 NC, 13 OUT (hiz), 14 V+ (power), 15 NC, 16 NC, 17 V+ (power), 18 OUT (hiz), 19 NC, 20 V- (power), 21 EP (power)

## LT1782CS5
designator U?
Single Channel, Micropower, Over-The-Top Rail-to-Rail Input and Output Operational Amplifier, 0.2 MHz Typical GBW, 0.07 V/us Typical SR, 2.2 to 18 V, 5-Pin SOT23 (S5-5), Commercial; Linear Technology Part Number: LT1782; Manufacturer: Linear Technology; PartNumber: LT1782CS5; Channels (#): 1; GBW (MHz) Typical: 0.2; Is (mA) Typical: 0.04; SR (V/us) Typical: 0.07; Vos (mV) Guaranteed: 0.8; Vos (mV) Typical: 0.4; Vs Max (V): 18; Vs Min (V): 2.2; DatasheetVersion: Rev. C; PackageReference: LT-S5-5-TSOT-23; PackageDescription: 5-Lead Plastic TSOT-23, Body 1.63 x 2.90 mm, Pitch 0.95 mm; Type: VFB; Mounting Technology: Surface Mount; Code_JEDEC: MO-193; ComponentLink1Description: Manufacturer URL; ComponentLink1URL: http://www.linear.com/; ComponentLink2Description: Datasheet; ComponentLink2URL: http://cds.linear.com/docs/en/datasheet/1782fc.pdf; ComponentLink3Description: Package Specification; ComponentLink3URL: http://cds.linear.com/docs/en/packaging/SOT_5_05-08-1635.pdf
footprint LT-S5-5-TSOT-23_N (SOT23, 5-Leads, Body 2.90x1.63mm, Pitch 0.95mm, IPC Medium Density)
footprint LT-S5-5-TSOT-23_L (SOT23, 5-Leads, Body 2.90x1.63mm, Pitch 0.95mm, IPC High Density)
footprint LT-S5-5-TSOT-23_M (SOT23, 5-Leads, Body 2.90x1.63mm, Pitch 0.95mm, IPC Low Density)
pins: 1 OUT (out), 2 V- (power), 3 +IN (in), 4 -IN (in), 5 V+ (power)

## LT1782CS5#PBF
designator U?
Single Channel, Micropower, Over-The-Top Rail-to-Rail Input and Output Operational Amplifier, 0.2 MHz Typical GBW, 0.07 V/us Typical SR, 2.2 to 18 V, 5-Pin SOT23 (S5-5), Commercial, Pb-Free; Linear Technology Part Number: LT1782; Manufacturer: Linear Technology; PartNumber: LT1782CS5#PBF; Channels (#): 1; GBW (MHz) Typical: 0.2; Is (mA) Typical: 0.04; SR (V/us) Typical: 0.07; Vos (mV) Guaranteed: 0.8; Vos (mV) Typical: 0.4; Vs Max (V): 18; Vs Min (V): 2.2; DatasheetVersion: Rev. C; PackageReference: LT-S5-5-TSOT-23; PackageDescription: 5-Lead Plastic TSOT-23, Body 1.63 x 2.90 mm, Pitch 0.95 mm; Supplier 1: Farnell; Supplier Part Number 1: 2294681; Supplier 2: Newark; Supplier Part Number 2: 78T3711; RoHS: Pb-Free; Type: VFB; Mounting Technology: Surface Mount; Code_JEDEC: MO-193; ComponentLink1Description: Manufacturer URL; ComponentLink1URL: http://www.linear.com/; ComponentLink2Description: Datasheet; ComponentLink2URL: http://cds.linear.com/docs/en/datasheet/1782fc.pdf; ComponentLink3Description: Package Specification; ComponentLink3URL: http://cds.linear.com/docs/en/packaging/SOT_5_05-08-1635.pdf
footprint LT-S5-5-TSOT-23_N (SOT23, 5-Leads, Body 2.90x1.63mm, Pitch 0.95mm, IPC Medium Density)
footprint LT-S5-5-TSOT-23_L (SOT23, 5-Leads, Body 2.90x1.63mm, Pitch 0.95mm, IPC High Density)
footprint LT-S5-5-TSOT-23_M (SOT23, 5-Leads, Body 2.90x1.63mm, Pitch 0.95mm, IPC Low Density)
pins: 1 OUT (out), 2 V- (power), 3 +IN (in), 4 -IN (in), 5 V+ (power)

## LT1782CS5#TR
designator U?
Single Channel, Micropower, Over-The-Top Rail-to-Rail Input and Output Operational Amplifier, 0.2 MHz Typical GBW, 0.07 V/us Typical SR, 2.2 to 18 V, 5-Pin SOT23 (S5-5), Commercial, Reel; Linear Technology Part Number: LT1782; Manufacturer: Linear Technology; PartNumber: LT1782CS5#TR; Channels (#): 1; GBW (MHz) Typical: 0.2; Is (mA) Typical: 0.04; SR (V/us) Typical: 0.07; Vos (mV) Guaranteed: 0.8; Vos (mV) Typical: 0.4; Vs Max (V): 18; Vs Min (V): 2.2; DatasheetVersion: Rev. C; PackageReference: LT-S5-5-TSOT-23; PackageDescription: 5-Lead Plastic TSOT-23, Body 1.63 x 2.90 mm, Pitch 0.95 mm; Supplier 1: Digi-Key; Supplier Part Number 1: LT1782CS5#TR-ND; Supplier 2: Newark; Supplier Part Number 2: 57M6338; Packing: Reel; Type: VFB; Mounting Technology: Surface Mount; Code_JEDEC: MO-193; ComponentLink1Description: Manufacturer URL; ComponentLink1URL: http://www.linear.com/; ComponentLink2Description: Datasheet; ComponentLink2URL: http://cds.linear.com/docs/en/datasheet/1782fc.pdf; ComponentLink3Description: Package Specification; ComponentLink3URL: http://cds.linear.com/docs/en/packaging/SOT_5_05-08-1635.pdf
footprint LT-S5-5-TSOT-23_N (SOT23, 5-Leads, Body 2.90x1.63mm, Pitch 0.95mm, IPC Medium Density)
footprint LT-S5-5-TSOT-23_L (SOT23, 5-Leads, Body 2.90x1.63mm, Pitch 0.95mm, IPC High Density)
footprint LT-S5-5-TSOT-23_M (SOT23, 5-Leads, Body 2.90x1.63mm, Pitch 0.95mm, IPC Low Density)
pins: 1 OUT (out), 2 V- (power), 3 +IN (in), 4 -IN (in), 5 V+ (power)

## LT1782CS5#TRM
designator U?
Single Channel, Micropower, Over-The-Top Rail-to-Rail Input and Output Operational Amplifier, 0.2 MHz Typical GBW, 0.07 V/us Typical SR, 2.2 to 18 V, 5-Pin SOT23 (S5-5), Commercial, Mini Reel; Linear Technology Part Number: LT1782; Manufacturer: Linear Technology; PartNumber: LT1782CS5#TRM; Channels (#): 1; GBW (MHz) Typical: 0.2; Is (mA) Typical: 0.04; SR (V/us) Typical: 0.07; Vos (mV) Guaranteed: 0.8; Vos (mV) Typical: 0.4; Vs Max (V): 18; Vs Min (V): 2.2; DatasheetVersion: Rev. C; PackageReference: LT-S5-5-TSOT-23; PackageDescription: 5-Lead Plastic TSOT-23, Body 1.63 x 2.90 mm, Pitch 0.95 mm; Supplier 1: Digi-Key; Supplier Part Number 1: LT1782CS5#TRM-ND; Packing: Mini Reel; Type: VFB; Mounting Technology: Surface Mount; Code_JEDEC: MO-193; ComponentLink1Description: Manufacturer URL; ComponentLink1URL: http://www.linear.com/; ComponentLink2Description: Datasheet; ComponentLink2URL: http://cds.linear.com/docs/en/datasheet/1782fc.pdf; ComponentLink3Description: Package Specification; ComponentLink3URL: http://cds.linear.com/docs/en/packaging/SOT_5_05-08-1635.pdf
footprint LT-S5-5-TSOT-23_N (SOT23, 5-Leads, Body 2.90x1.63mm, Pitch 0.95mm, IPC Medium Density)
footprint LT-S5-5-TSOT-23_L (SOT23, 5-Leads, Body 2.90x1.63mm, Pitch 0.95mm, IPC High Density)
footprint LT-S5-5-TSOT-23_M (SOT23, 5-Leads, Body 2.90x1.63mm, Pitch 0.95mm, IPC Low Density)
pins: 1 OUT (out), 2 V- (power), 3 +IN (in), 4 -IN (in), 5 V+ (power)

## LT1782CS5#TRMPBF
designator U?
Single Channel, Micropower, Over-The-Top Rail-to-Rail Input and Output Operational Amplifier, 0.2 MHz Typical GBW, 0.07 V/us Typical SR, 2.2 to 18 V, 5-Pin SOT23 (S5-5), Commercial, Pb-Free, Mini Reel; Linear Technology Part Number: LT1782; Manufacturer: Linear Technology; PartNumber: LT1782CS5#TRMPBF; Channels (#): 1; GBW (MHz) Typical: 0.2; Is (mA) Typical: 0.04; SR (V/us) Typical: 0.07; Vos (mV) Guaranteed: 0.8; Vos (mV) Typical: 0.4; Vs Max (V): 18; Vs Min (V): 2.2; DatasheetVersion: Rev. C; PackageReference: LT-S5-5-TSOT-23; PackageDescription: 5-Lead Plastic TSOT-23, Body 1.63 x 2.90 mm, Pitch 0.95 mm; Supplier 1: Digi-Key; Supplier Part Number 1: LT1782CS5#TRMPBFTR-ND; Supplier 2: Digi-Key; Supplier Part Number 2: LT1782CS5#TRMPBFCT-ND; Supplier 3: Digi-Key; Supplier Part Number 3: LT1782CS5#TRMPBFDKR-ND; Supplier 4: Newark; Supplier Part Number 4: 57M6340; Packing: Mini Reel; RoHS: Pb-Free; Type: VFB; Mounting Technology: Surface Mount; Code_JEDEC: MO-193; ComponentLink1Description: Manufacturer URL; ComponentLink1URL: http://www.linear.com/; ComponentLink2Description: Datasheet; ComponentLink2URL: http://cds.linear.com/docs/en/datasheet/1782fc.pdf; ComponentLink3Description: Package Specification; ComponentLink3URL: http://cds.linear.com/docs/en/packaging/SOT_5_05-08-1635.pdf
footprint LT-S5-5-TSOT-23_N (SOT23, 5-Leads, Body 2.90x1.63mm, Pitch 0.95mm, IPC Medium Density)
footprint LT-S5-5-TSOT-23_L (SOT23, 5-Leads, Body 2.90x1.63mm, Pitch 0.95mm, IPC High Density)
footprint LT-S5-5-TSOT-23_M (SOT23, 5-Leads, Body 2.90x1.63mm, Pitch 0.95mm, IPC Low Density)
pins: 1 OUT (out), 2 V- (power), 3 +IN (in), 4 -IN (in), 5 V+ (power)

## LT1782CS5#TRPBF
designator U?
Single Channel, Micropower, Over-The-Top Rail-to-Rail Input and Output Operational Amplifier, 0.2 MHz Typical GBW, 0.07 V/us Typical SR, 2.2 to 18 V, 5-Pin SOT23 (S5-5), Commercial, Pb-Free, Reel; Linear Technology Part Number: LT1782; Manufacturer: Linear Technology; PartNumber: LT1782CS5#TRPBF; Channels (#): 1; GBW (MHz) Typical: 0.2; Is (mA) Typical: 0.04; SR (V/us) Typical: 0.07; Vos (mV) Guaranteed: 0.8; Vos (mV) Typical: 0.4; Vs Max (V): 18; Vs Min (V): 2.2; DatasheetVersion: Rev. C; PackageReference: LT-S5-5-TSOT-23; PackageDescription: 5-Lead Plastic TSOT-23, Body 1.63 x 2.90 mm, Pitch 0.95 mm; Supplier 1: Digi-Key; Supplier Part Number 1: LT1782CS5#TRPBF-ND; Supplier 2: Newark; Supplier Part Number 2: 57M6341; Packing: Reel; RoHS: Pb-Free; Type: VFB; Mounting Technology: Surface Mount; Code_JEDEC: MO-193; ComponentLink1Description: Manufacturer URL; ComponentLink1URL: http://www.linear.com/; ComponentLink2Description: Datasheet; ComponentLink2URL: http://cds.linear.com/docs/en/datasheet/1782fc.pdf; ComponentLink3Description: Package Specification; ComponentLink3URL: http://cds.linear.com/docs/en/packaging/SOT_5_05-08-1635.pdf
footprint LT-S5-5-TSOT-23_N (SOT23, 5-Leads, Body 2.90x1.63mm, Pitch 0.95mm, IPC Medium Density)
footprint LT-S5-5-TSOT-23_L (SOT23, 5-Leads, Body 2.90x1.63mm, Pitch 0.95mm, IPC High Density)
footprint LT-S5-5-TSOT-23_M (SOT23, 5-Leads, Body 2.90x1.63mm, Pitch 0.95mm, IPC Low Density)
pins: 1 OUT (out), 2 V- (power), 3 +IN (in), 4 -IN (in), 5 V+ (power)

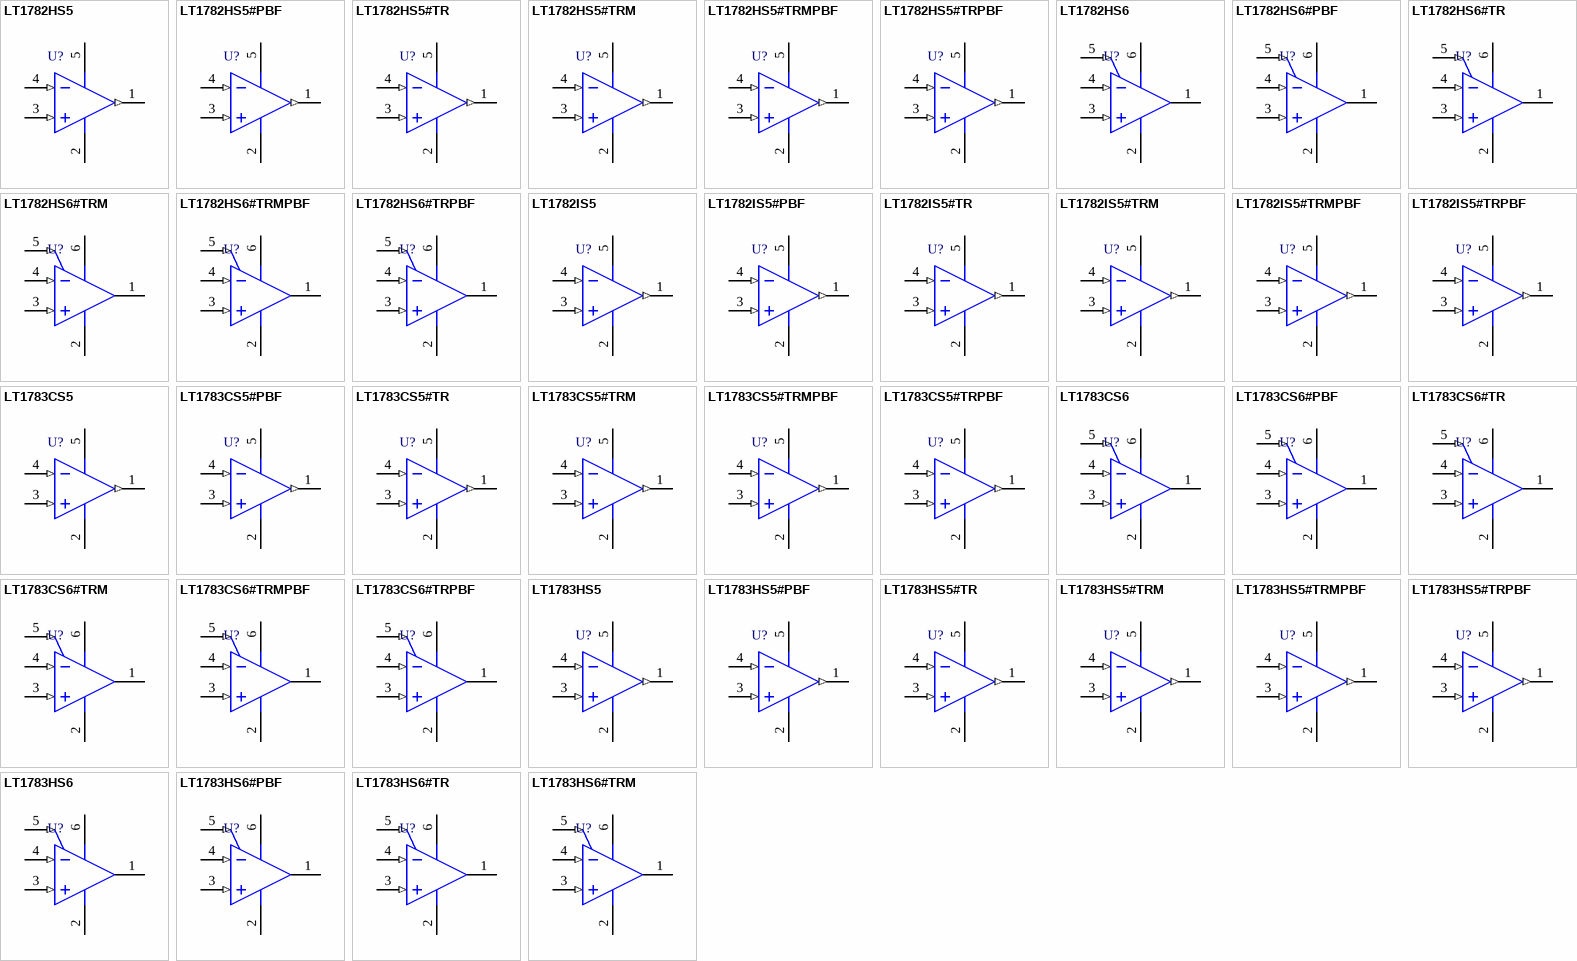
[diagram p69: symbols LT1782HS5 to LT1783HS6#TRM]

## LT1782HS5
designator U?
Single Channel, Micropower, Over-The-Top Operational Amplifier, RRIO, 0.2 MHz Typical GBW, 0.07 V/us Typical SR, 2.2 to 18 V, 5-Pin SOT23 (S5-5), High Temperature / Automotive; Linear Technology Part Number: LT1782; Manufacturer: Linear Technology; PartNumber: LT1782HS5; Channels (#): 1; GBW (MHz) Typical: 0.2; Is (mA) Typical: 0.04; SR (V/us) Typical: 0.07; Vos (mV) Guaranteed: 0.8; Vos (mV) Typical: 0.4; Vs Max (V): 18; Vs Min (V): 2.2; DatasheetVersion: Rev. C; PackageReference: LT-S5-5-TSOT-23; PackageDescription: 5-Lead Plastic TSOT-23, Body 1.63 x 2.90 mm, Pitch 0.95 mm; Type: VFB; Mounting Technology: Surface Mount; Code_JEDEC: MO-193; ComponentLink1Description: Manufacturer URL; ComponentLink1URL: http://www.linear.com/; ComponentLink2Description: Datasheet; ComponentLink2URL: http://cds.linear.com/docs/en/datasheet/1782fc.pdf; ComponentLink3Description: Package Specification; ComponentLink3URL: http://cds.linear.com/docs/en/packaging/SOT_5_05-08-1635.pdf
footprint LT-S5-5-TSOT-23_N (SOT23, 5-Leads, Body 2.90x1.63mm, Pitch 0.95mm, IPC Medium Density)
footprint LT-S5-5-TSOT-23_L (SOT23, 5-Leads, Body 2.90x1.63mm, Pitch 0.95mm, IPC High Density)
footprint LT-S5-5-TSOT-23_M (SOT23, 5-Leads, Body 2.90x1.63mm, Pitch 0.95mm, IPC Low Density)
pins: 1 OUT (out), 2 V- (power), 3 +IN (in), 4 -IN (in), 5 V+ (power)

## LT1782HS5#PBF
designator U?
Single Channel, Micropower, Over-The-Top Operational Amplifier, RRIO, 0.2 MHz Typical GBW, 0.07 V/us Typical SR, 2.2 to 18 V, 5-Pin SOT23 (S5-5), High Temperature / Automotive, Pb-Free; Linear Technology Part Number: LT1782; Manufacturer: Linear Technology; PartNumber: LT1782HS5#PBF; Channels (#): 1; GBW (MHz) Typical: 0.2; Is (mA) Typical: 0.04; SR (V/us) Typical: 0.07; Vos (mV) Guaranteed: 0.8; Vos (mV) Typical: 0.4; Vs Max (V): 18; Vs Min (V): 2.2; DatasheetVersion: Rev. C; PackageReference: LT-S5-5-TSOT-23; PackageDescription: 5-Lead Plastic TSOT-23, Body 1.63 x 2.90 mm, Pitch 0.95 mm; RoHS: Pb-Free; Type: VFB; Mounting Technology: Surface Mount; Code_JEDEC: MO-193; ComponentLink1Description: Manufacturer URL; ComponentLink1URL: http://www.linear.com/; ComponentLink2Description: Datasheet; ComponentLink2URL: http://cds.linear.com/docs/en/datasheet/1782fc.pdf; ComponentLink3Description: Package Specification; ComponentLink3URL: http://cds.linear.com/docs/en/packaging/SOT_5_05-08-1635.pdf
footprint LT-S5-5-TSOT-23_N (SOT23, 5-Leads, Body 2.90x1.63mm, Pitch 0.95mm, IPC Medium Density)
footprint LT-S5-5-TSOT-23_L (SOT23, 5-Leads, Body 2.90x1.63mm, Pitch 0.95mm, IPC High Density)
footprint LT-S5-5-TSOT-23_M (SOT23, 5-Leads, Body 2.90x1.63mm, Pitch 0.95mm, IPC Low Density)
pins: 1 OUT (out), 2 V- (power), 3 +IN (in), 4 -IN (in), 5 V+ (power)

## LT1782HS5#TR
designator U?
Single Channel, Micropower, Over-The-Top Operational Amplifier, RRIO, 0.2 MHz Typical GBW, 0.07 V/us Typical SR, 2.2 to 18 V, 5-Pin SOT23 (S5-5), High Temperature / Automotive, Reel; Linear Technology Part Number: LT1782; Manufacturer: Linear Technology; PartNumber: LT1782HS5#TR; Channels (#): 1; GBW (MHz) Typical: 0.2; Is (mA) Typical: 0.04; SR (V/us) Typical: 0.07; Vos (mV) Guaranteed: 0.8; Vos (mV) Typical: 0.4; Vs Max (V): 18; Vs Min (V): 2.2; DatasheetVersion: Rev. C; PackageReference: LT-S5-5-TSOT-23; PackageDescription: 5-Lead Plastic TSOT-23, Body 1.63 x 2.90 mm, Pitch 0.95 mm; Supplier 1: Digi-Key; Supplier Part Number 1: LT1782HS5TR-ND; Supplier 2: Newark; Supplier Part Number 2: 57M6346; Packing: Reel; Type: VFB; Mounting Technology: Surface Mount; Code_JEDEC: MO-193; ComponentLink1Description: Manufacturer URL; ComponentLink1URL: http://www.linear.com/; ComponentLink2Description: Datasheet; ComponentLink2URL: http://cds.linear.com/docs/en/datasheet/1782fc.pdf; ComponentLink3Description: Package Specification; ComponentLink3URL: http://cds.linear.com/docs/en/packaging/SOT_5_05-08-1635.pdf
footprint LT-S5-5-TSOT-23_N (SOT23, 5-Leads, Body 2.90x1.63mm, Pitch 0.95mm, IPC Medium Density)
footprint LT-S5-5-TSOT-23_L (SOT23, 5-Leads, Body 2.90x1.63mm, Pitch 0.95mm, IPC High Density)
footprint LT-S5-5-TSOT-23_M (SOT23, 5-Leads, Body 2.90x1.63mm, Pitch 0.95mm, IPC Low Density)
pins: 1 OUT (out), 2 V- (power), 3 +IN (in), 4 -IN (in), 5 V+ (power)